# EAGLE library part SAA7113H (library digistation)
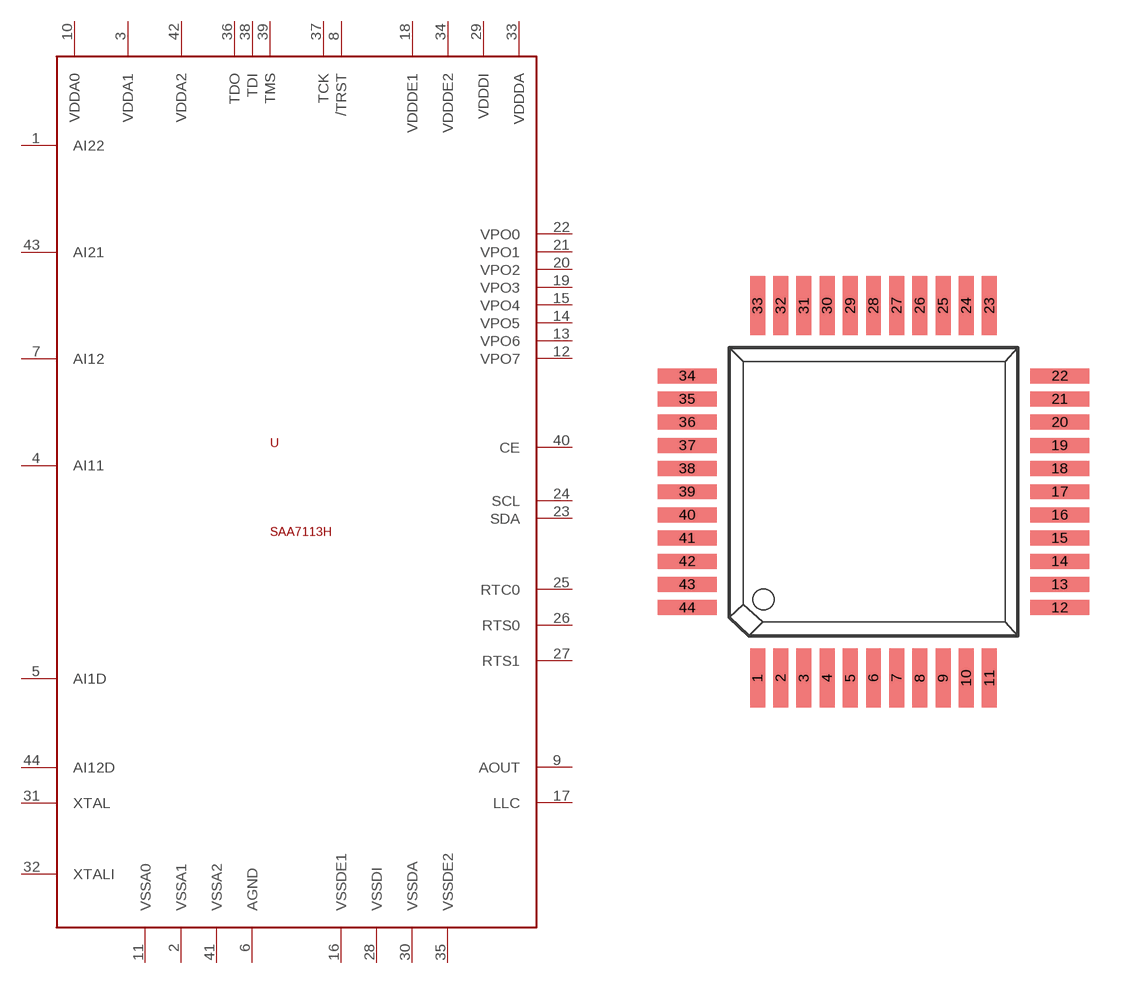
[diagram p1: symbol with the pads of QFP44; footprint QFP44]

Designator prefix -

## SAA7113H  [QFP44]
1  AI22
2  VSSA1
3  VDDA1
4  AI11
5  AI1D
6  AGND
7  AI12
8  /TRST
9  AOUT
10  VDDA0
11  VSSA0
12  VPO7
13  VPO6
14  VPO5
15  VPO4
16  VSSDE1
17  LLC
18  VDDDE1
19  VPO3
20  VPO2
21  VPO1
22  VPO0
23  SDA
24  SCL
25  RTC0
26  RTS0
27  RTS1
28  VSSDI
29  VDDDI
30  VSSDA
31  XTAL
32  XTALI
33  VDDDA
34  VDDDE2
35  VSSDE2
36  TDO
37  TCK
38  TDI
39  TMS
40  CE
41  VSSA2
42  VDDA2
43  AI21
44  AI12D

## Footprint QFP44 (pad centres in mm)
smd 0.508 x 2.007: 1 -3.697,-6.896; 2 -2.91,-6.896; 3 -2.122,-6.896; 4 -1.335,-6.896; 5 -0.547,-6.896; 6 0.24,-6.896; 7 1.027,-6.896; 8 1.815,-6.896; 9 2.602,-6.896; 10 3.39,-6.896; 11 4.177,-6.896; 23 4.177,5.754; 24 3.39,5.754; 25 2.602,5.754; 26 1.815,5.754; 27 1.027,5.754; 28 0.24,5.754; 29 -0.547,5.754; 30 -1.335,5.754; 31 -2.122,5.754; 32 -2.91,5.754; 33 -3.697,5.754
smd 2.007 x 0.508: 12 6.565,-4.508; 13 6.565,-3.721; 14 6.565,-2.933; 15 6.565,-2.146; 16 6.565,-1.358; 17 6.565,-0.571; 18 6.565,0.216; 19 6.565,1.004; 20 6.565,1.791; 21 6.565,2.579; 22 6.565,3.366; 34 -6.085,3.366; 35 -6.085,2.579; 36 -6.085,1.791; 37 -6.085,1.004; 38 -6.085,0.216; 39 -6.085,-0.571; 40 -6.085,-1.358; 41 -6.085,-2.146; 42 -6.085,-2.933; 43 -6.085,-3.721; 44 -6.085,-4.508